# Altium schematic symbol library Speaker.SchLib: 1 symbol
Pins are listed as number, name and electrical type; pins without a type are passive.

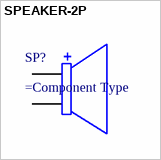
[diagram p0: symbol SPEAKER-2P]

## SPEAKER-2P
designator SP?
pins: 1, 2
text: +